# Altium schematic symbol library VCNL4010-GS08.SchLib: 1 symbol
Pins are listed as number, name and electrical type; pins without a type are passive.

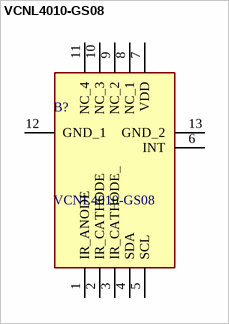
[diagram p0: symbol VCNL4010-GS08]

## VCNL4010-GS08
designator B?
Proximity & Ambient Light Sensor I2C SMD Vishay VCNL4010-GS08 SMT Reflective Sensor, Microcontroller Output; Geometry.Height: 0.75mm; Mouser Part Number: 78-VCNL4010-GS08; Mouser Price/Stock: https://www.mouser.co.uk/ProductDetail/Vishay-Semiconductors/VCNL4010-GS08?qs=s4XK1XdnRik7x1pyEKUO2w%3D%3D; Manufacturer_Name: Vishay; Manufacturer_Part_Number: VCNL4010-GS08; Datasheet Link: https://componentsearchengine.com/Datasheets/2/VCNL4010-GS08.pdf
footprint VCNL4010GS08
pins: 1 IR_ANODE, 2 IR_CATHODE, 3 IR_CATHODE_, 4 SDA, 5 SCL, 6 INT, 7 VDD, 8 NC_1, 9 NC_2, 10 NC_3, 11 NC_4, 12 GND_1, 13 GND_2